# Altium footprint library ESP32_CAN_V2.PcbLib: 32 footprints (part 1 of 2)
Each footprint in its own frame and in the unit in brackets; x right, y up, seen from the top. Pads: shape width x height; smd on the part's side, far side on the other; paste and mask are expansions set on the pad; w line width, h text height; cw(c..) or ccw(c..) is an arc to the next point about the centre after c.
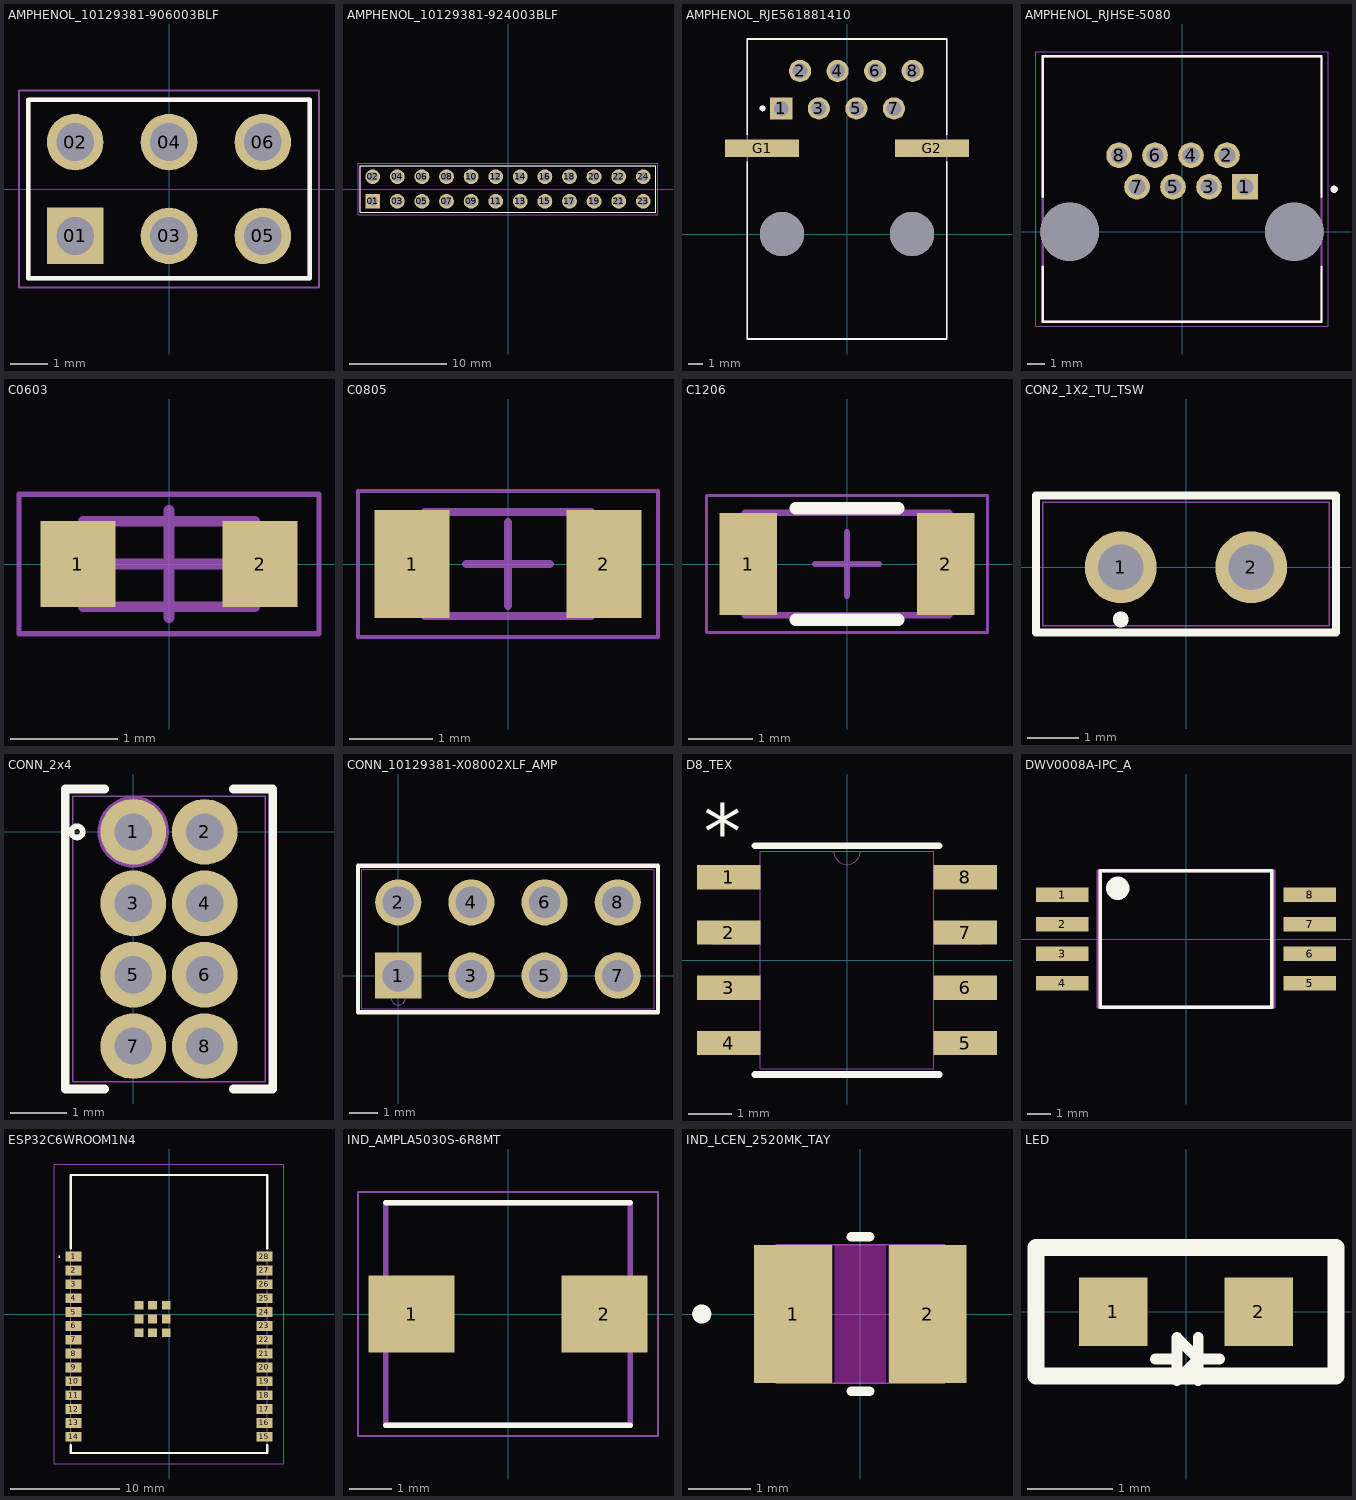
[diagram p0: the footprints below, top view; thin cyan lines are the x and y axes]

## AMPHENOL_10129381-906003BLF [mm]
pads (6):
  rect 1.53x1.53 / inner round 1.53 / far side rect 1.53x1.53 hole 1.02: 01(-2.54,-1.27)
  round 1.53 hole 1.02: 02(-2.54,1.27) 03(0,-1.27) 04(0,1.27) 05(2.54,-1.27) 06(2.54,1.27)
Top Overlay:
  lines w0.127: -3.81,-2.415 3.81,-2.415 3.81,2.415 -3.81,2.415 -3.81,-2.415
Mechanical 13:
  lines w0.127: -3.81,-2.415 -3.81,2.415 ; -3.81,-2.415 3.81,-2.415 ; -3.81,-2.415 -3.81,2.415 ; -3.81,2.415 3.81,2.415 ; -3.81,2.415 3.81,2.415 ; 3.81,-2.415 3.81,2.415 ; 3.81,-2.415 3.81,2.415
Mechanical 15:
  lines w0.05: -4.06,-2.665 4.06,-2.665 4.06,2.665 -4.06,2.665 -4.06,-2.665
3D body "10129381-906003BLF--3DModel-STEP-533217.STEP": height 10.42, standoff -3.25, extent -3.81,-2.415 3.81,2.415

## AMPHENOL_10129381-924003BLF [mm]
pads (24):
  rect 1.53x1.53 / inner round 1.53 / far side rect 1.53x1.53 hole 1.02: 01(-13.97,-1.27)
  round 1.53 hole 1.02: 02(-13.97,1.27) 03(-11.43,-1.27) 04(-11.43,1.27) 05(-8.89,-1.27) 06(-8.89,1.27) 07(-6.35,-1.27) 08(-6.35,1.27) 09(-3.81,-1.27) 10(-3.81,1.27) 11(-1.27,-1.27) 12(-1.27,1.27) 13(1.27,-1.27) 14(1.27,1.27) 15(3.81,-1.27) 16(3.81,1.27) 17(6.35,-1.27) 18(6.35,1.27) 19(8.89,-1.27) 20(8.89,1.27) 21(11.43,-1.27) 22(11.43,1.27) 23(13.97,-1.27) 24(13.97,1.27)
Top Overlay:
  lines w0.127: -15.24,-2.415 -15.24,2.415 15.24,2.415 15.24,-2.415 -15.24,-2.415
Mechanical 13:
  lines w0.127: -15.24,-2.415 -15.24,2.415 ; -15.24,-2.415 15.24,-2.415 ; -15.24,-2.415 -15.24,2.415 ; -15.24,2.415 15.24,2.415 ; -15.24,2.415 15.24,2.415 ; 15.24,-2.415 15.24,2.415 ; 15.24,-2.415 15.24,2.415
Mechanical 15:
  lines w0.05: -15.49,-2.665 -15.49,2.665 15.49,2.665 15.49,-2.665 -15.49,-2.665
3D body "10129381-924003BLF--3DModel-STEP-533217.STEP": height 10.42, standoff -3.25, extent -15.24,-2.415 15.24,2.415

## AMPHENOL_RJE561881410 [mm]
height 13.5
pads (12):
  rect 1.5x1.5 / inner round 1.5 / far side rect 1.5x1.5 hole 1: 1(-4.445,8.5)
  round 1.5 hole 1: 2(-3.175,11.04) 3(-1.905,8.5) 4(-0.635,11.04) 5(0.635,8.5) 6(1.905,11.04) 7(3.175,8.5) 8(4.445,11.04)
  rect 5x1.2 smd paste-3: G1(-5.75,5.8) G2(5.75,5.8)
  round 3 hole 3 unplated: ""(-4.4,0) ""(4.4,0)
Top Overlay:
  circle w0.2: c-5.715,8.509 r0.1
  lines w0.127: -6.75,4.88 -6.75,-7.1 6.75,-7.1 6.75,4.88 ; -6.75,6.72 -6.75,13.2 6.75,13.2 6.75,6.72
Mechanical 13:
  circle w0.2: c-5.715,8.509 r0.1
  lines w0.127: -6.75,-7.1 -6.75,13.2 6.75,13.2 6.75,-7.1 -6.75,-7.1
3D body "step_temp.STEP": height 14.61, standoff -2.79, extent -6.75,-7.1 6.75,13.2

## AMPHENOL_RJHSE-5080 [mil]
height 520.08
pads (10):
  rect 57x57 / inner round 57 / far side rect 57x57 hole 37: 1(140,100)
  round 57 hole 37: 2(100,170) 3(60,100) 4(20,170) 5(-20,100) 6(-60,170) 7(-100,100) 8(-140,170)
  round 130 hole 130 unplated: ""(-250,0) ""(250,0)
Top Overlay:
  circle w7.87: c338.58,94.49 r3.94
  lines w5: -310.04,-77.56 -310.04,-200 310.04,-200 310.04,-77.56 ; -310.04,77.56 -310.04,390.16 310.04,390.16 310.04,77.56
Mechanical 13:
  circle w7.87: c338.58,94.49 r3.94
  lines w5: -310.04,-200 310.04,-200 310.04,390.16 -310.04,390.16 -310.04,-200
Mechanical 15:
  lines w1.97: -324.8,-209.84 -324.8,400 324.8,400 324.8,-209.84 -324.8,-209.84
3D body "step_temp.STEP": height 513.94, standoff -128.06, extent -314.88,-196.57 305.12,393.43

## C0603 [mm] "Ceramic Capacitors, 0603, body 1.6x0.8mm"
height 0.8
pads (2):
  rect 0.7x0.8 smd: 1(-0.85,0) 2(0.85,0)
Top Courtyard:
  lines w0.05: -1.4,-0.65 -1.4,0.65 1.4,0.65 1.4,-0.65 -1.4,-0.65
Top Assembly:
  lines w0.1: -0.8,-0.4 -0.8,0.4 0.8,0.4 0.8,-0.4 -0.8,-0.4
Top Component Center:
  lines w0.1: -0.5,0 0.5,0 ; 0,-0.5 0,0.5
3D body "CAPC1608X08N.step": height 0.8, standoff 0, extent -0.8,-0.4 0.8,0.4

## C0805 [mm] "Ceramic Capacitors, body 2x1.25mm"
height 0.9
pads (2):
  rect 0.9x1.3 smd: 1(-1.15,0) 2(1.15,0)
Top Courtyard:
  lines w0.05: -1.8,-0.875 1.8,-0.875 1.8,0.875 -1.8,0.875 -1.8,-0.875
Top Assembly:
  lines w0.1: -1,-0.625 1,-0.625 1,0.625 -1,0.625 -1,-0.625
Top Component Center:
  lines w0.1: -0.5,0 0.5,0 ; 0,-0.5 0,0.5
3D body "CAPC2012X08N.step": height 0.8, standoff 0, extent -1,-0.625 1,0.625

## C1206 [mm] "Ceramic Capacitors, body 3.2x1.6mm"
height 1.05
pads (2):
  rect 0.9x1.6 smd: 1(-1.55,0) 2(1.55,0)
Top Overlay:
  lines w0.2: -0.8,-0.875 0.8,-0.875 ; -0.8,0.875 0.8,0.875
Top Courtyard:
  lines w0.05: -2.2,-1.075 -2.2,1.075 2.2,1.075 2.2,-1.075 -2.2,-1.075
Top Assembly:
  lines w0.1: -1.6,-0.8 1.6,-0.8 1.6,0.8 -1.6,0.8 -1.6,-0.8
Top Component Center:
  lines w0.1: -0.5,0 0.5,0 ; 0,-0.5 0,0.5
3D body "CAPC3216X10N.step": height 0.95, standoff 0, extent -1.6,-0.8 1.6,0.8

## CON2_1X2_TU_TSW [mil]
pads (2):
  round 55 hole 35 paste-99999 mask+0: 1(-50,0) 2(50,0)
Top Overlay:
  circle w10: c-50,-40 r1
  lines w6: -115,-50 115,-50 115,55 -115,55 -115,-50
Mechanical 13:
  circle w1: c-50,0 r10
  lines w1: -110,-45 110,-45 110,50 -110,50 -110,-45
3D body "CON2_1X2_TU_TSW.step": height 500, standoff -200, extent -100,-50 100,50

## CONN_2x4 [mil]
pads (8):
  round 46 hole 26 paste-99999 mask+0: 1(0,0) 2(50,0) 3(0,-50) 4(50,-50) 5(0,-100) 6(50,-100) 7(0,-150) 8(50,-150)
Top Overlay:
  circle w3.94: c-39.37,0 r3.94
  lines w6: -20.08,-180 -47.52,-180 -47.52,30 -20.08,30 ; 70.08,-180 97.52,-180 97.52,30 70.08,30
Mechanical 13:
  circle w20: c0,0 r15
  lines w1: -42.52,-175 -42.52,25 92.52,25 92.52,-175 -42.52,-175
3D body "20021111-00008T4LF--3DModel-STEP-56544.STEP": height 218.5, standoff -90.55, extent -47.83,-177.17 87.2,22.83

## CONN_10129381-X08002XLF_AMP [mil]
pads (8):
  rect 63x63 hole 43 paste-99999 mask+0: 1(0,0)
  round 63 hole 43 paste-99999 mask+0: 2(0,100) 3(100,0) 4(100,100) 5(200,0) 6(200,100) 7(300,0) 8(300,100)
Top Overlay:
  lines w6: -55,-50 355,-50 355,150 -55,150 -55,-50
Mechanical 13:
  circle w1: c0,-30 r10
  lines w1: -50,-45 350,-45 350,145 -50,145 -50,-45
3D body "CONN_10129381-X08002XLF_AMP.step": height 337.99, standoff -200, extent -50,-50 350,150

## D8_TEX [mm]
pads (8):
  rect 1.455x0.558 smd paste+0 mask+0: 1(-2.721,1.905) 2(-2.721,0.635) 3(-2.721,-0.635) 4(-2.721,-1.905) 5(2.721,-1.905) 6(2.721,-0.635) 7(2.721,0.635) 8(2.721,1.905)
Top Overlay:
  lines w0.152: -2.121,-2.629 2.121,-2.629 ; -2.121,2.629 2.121,2.629
  text "*" at -3.293,2.336 h1.27
Mechanical 13:
  lines w0.025: -0.305,2.502 ccw(c0,2.502) 0.305,2.502 ; -3.099,-2.159 -1.994,-2.159 -1.994,-1.651 -3.099,-1.651 -3.099,-2.159 ; -3.099,-0.889 -1.994,-0.889 -1.994,-0.381 -3.099,-0.381 -3.099,-0.889 ; -3.099,0.381 -1.994,0.381 -1.994,0.889 -3.099,0.889 -3.099,0.381 ; -3.099,1.651 -1.994,1.651 -1.994,2.159 -3.099,2.159 -3.099,1.651 ; -1.994,-2.502 -1.994,2.502 1.994,2.502 1.994,-2.502 -1.994,-2.502 ; 1.994,-2.159 3.099,-2.159 3.099,-1.651 1.994,-1.651 1.994,-2.159 ; 1.994,-0.889 3.099,-0.889 3.099,-0.381 1.994,-0.381 1.994,-0.889 ; 1.994,0.381 3.099,0.381 3.099,0.889 1.994,0.889 1.994,0.381 ; 1.994,1.651 3.099,1.651 3.099,2.159 1.994,2.159 1.994,1.651
  text "*" at -1.93,1.156 h1.27
3D body "D8_TEX.step": height 1.76, standoff 0, extent -3.099,-2.502 3.099,2.502

## DWV0008A-IPC_A [mm]
pads (8):
  rect 2.254x0.622 smd paste+0 mask+0: 1(-5.301,1.905) 2(-5.301,0.635) 3(-5.301,-0.635) 4(-5.301,-1.905) 5(5.301,-1.905) 6(5.301,-0.635) 7(5.301,0.635) 8(5.301,1.905)
Top Overlay:
  circle w0.5: c-2.924,2.175 r0.25
  lines w0.15: -3.674,-2.925 3.674,-2.925 3.674,2.925 -3.674,2.925 -3.674,-2.925
Mechanical 13:
  lines w0.15: -3.75,-2.925 3.75,-2.925 3.75,2.925 -3.75,2.925 -3.75,-2.925

## ESP32C6WROOM1N4 [mm]
pads (37):
  rect 1.5x0.9 smd: 1(-8.75,5.26) 2(-8.75,3.99) 3(-8.75,2.72) 4(-8.75,1.45) 5(-8.75,0.18) 6(-8.75,-1.09) 7(-8.75,-2.36) 8(-8.75,-3.63) 9(-8.75,-4.9) 10(-8.75,-6.17) 11(-8.75,-7.44) 12(-8.75,-8.71) 13(-8.75,-9.98) 14(-8.75,-11.25) 15(8.75,-11.25) 16(8.75,-9.98) 17(8.75,-8.71) 18(8.75,-7.44) 19(8.75,-6.17) 20(8.75,-4.9) 21(8.75,-3.63) 22(8.75,-2.36) 23(8.75,-1.09) 24(8.75,0.18) 25(8.75,1.45) 26(8.75,2.72) 27(8.75,3.99) 28(8.75,5.26)
  rect 0.8x0.8 smd: 29(-1.505,-0.46) 30(-1.505,0.79) 31(-2.755,0.79) 32(-2.755,-0.46) 33(-2.755,-1.71) 34(-1.505,-1.71) 35(-0.255,-1.71) 36(-0.255,-0.46) 37(-0.255,0.79)
Top Overlay:
  lines w0.1: -10.1,5.26 cw(c-10.05,5.26) -10,5.26 cw(c-10.05,5.26) -10.1,5.26
  lines w0.2: -9,-12 -9,-12.75 9,-12.75 9,-12 ; -9,6 -9,12.75 9,12.75 9,6
Mechanical 15:
  lines w0.1: -9,-12.75 9,-12.75 9,12.75 -9,12.75 -9,-12.75
Mechanical 20:
  lines w0.1: -10.5,-13.75 10.5,-13.75 10.5,13.75 -10.5,13.75 -10.5,-13.75
3D body "ESP32-C6-WROOM-1-N4.stp": height 3.1, standoff -0.01, extent -9.01,-12.8 9.01,12.7

## IND_AMPLA5030S-6R8MT [mm]
height 3
pads (2):
  rect 2x1.8 smd: 1(-2.25,0) 2(2.25,0)
Top Overlay:
  lines w0.127: -2.85,-2.6 2.85,-2.6 ; -2.85,2.6 2.85,2.6
Mechanical 13:
  lines w0.127: -2.85,-2.6 -2.85,2.6 2.85,2.6 2.85,-2.6 -2.85,-2.6
Mechanical 15:
  lines w0.05: -3.5,-2.85 -3.5,2.85 3.5,2.85 3.5,-2.85 -3.5,-2.85
3D body "step_temp.STEP": height 2.8, standoff -0.07, extent -2.92,-2.6 2.92,2.6

## IND_LCEN_2520MK_TAY [mil]
pads (2):
  rect 48.78x87 smd paste+0 mask+0: 1(-42.39,0) 2(42.39,0)
Top Layer keep-out:
  region: -16,-41.5 -16,41.5 16,41.5 16,-41.5
Top Overlay:
  circle w6: c-99.78,0 r3
  lines w6: -5.89,-48.5 5.89,-48.5 ; -5.89,48.5 5.89,48.5
Keep-Out Layer:
  region: -16,-43.5 -16,43.5 16,43.5 16,-43.5
Mechanical 13:
  circle w1: c-37.39,0 r3
  lines w1: -53,-43.5 -53,43.5 ; -53,-43.5 -18,-43.5 -18,43.5 -53,43.5 ; -53,-43.5 53,-43.5 ; -53,-43.5 -53,43.5 ; -53,43.5 53,43.5 ; 53,-43.5 18,-43.5 18,43.5 53,43.5 ; 53,-43.5 53,43.5 ; 53,-43.5 53,43.5
3D body "IND_LCEN_2520MK_TAY.step": height 47.01, standoff 0, extent -52.99,-43.5 52.99,43.5

## LED [mm]
pads (2):
  rect 0.8x0.8 smd: 1(-0.85,0) 2(0.85,0)
Top Overlay:
  lines w0.127: -0.357,-0.55 -0.107,-0.55 ; 0.143,-0.8 0.143,-0.3 ; 0.393,-0.55 0.143,-0.55 ; 0.143,-0.55 -0.107,-0.8 -0.107,-0.3 0.143,-0.55
  lines w0.2: -1.75,-0.75 1.75,-0.75 1.75,0.75 -1.75,0.75 -1.75,0 -1.75,-0.75
3D body "150060BS83000.stp": height 0.95, standoff 0, extent -0.8,-0.4 0.8,0.4